# EAGLE library part MHW1345 (library opamps)
MHW1345: RF amplifier (Freescale) +24V, 10-200MHz, 34.5dB gain, 800mW
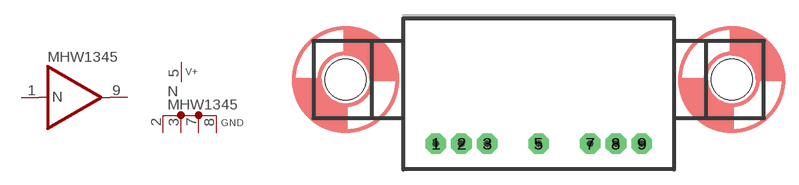
[diagram p237: symbol with the pads of 1302-01; footprint 1302-01]

Designator prefix N; gates P=V+4GND A=BUF_4

## MHW1345  [1302-01]
1  A:IN  in
2  P:GND  pwr
3  P:GND  pwr
5  P:V+  pwr
7  P:GND  pwr
8  P:GND  pwr
9  A:OUT  out

## Footprint 1302-01 (pad centres in mm)
1302-01, style 1 Freescale power amplifier module
drill 0.813 pad 2.032 octagon: 1 -10.16,0; 2 -7.62,0; 3 -5.08,0; 5 0,0; 7 5.08,0; 8 7.62,0; 9 10.16,0
hole 4.064 at -19.05,6.35
hole 4.064 at 19.05,6.35